# Altium schematic symbol library SIQ-02FVS3_1_2022-03-15.SCHLIB: 1 symbol
Pins are listed as number, name and electrical type; pins without a type are passive.

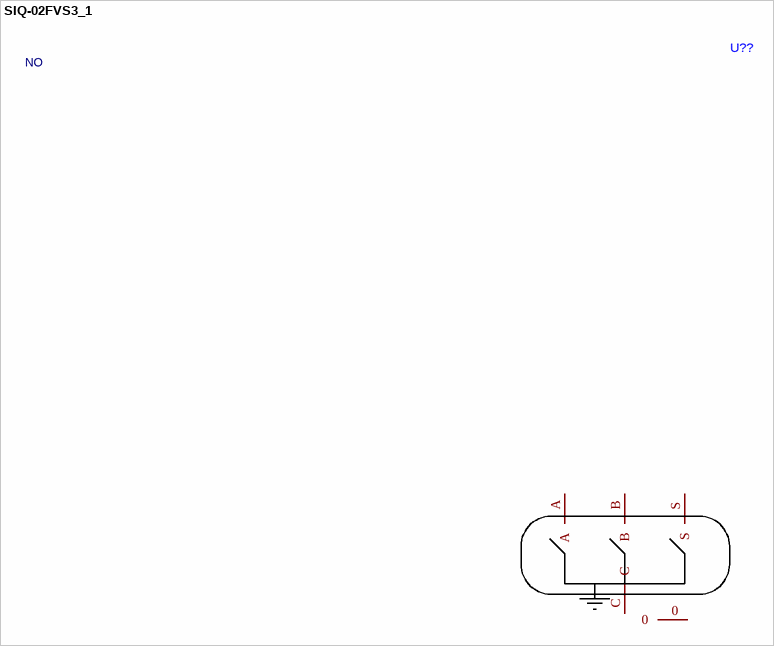
[diagram p0: symbol SIQ-02FVS3_1]

## SIQ-02FVS3_1
designator U??
footprint SW-SMD_SIQ-02FVS3_1
pins: 0, A, B, C, S
text: NO